# Altium footprint library bzq2142.PcbLib: 22 footprints (part 2 of 2)
Each footprint in its own frame and in the unit in brackets; x right, y up, seen from the top. Pads: shape width x height; smd on the part's side, far side on the other; paste and mask are expansions set on the pad; w line width, h text height; cw(c..) or ccw(c..) is an arc to the next point about the centre after c.
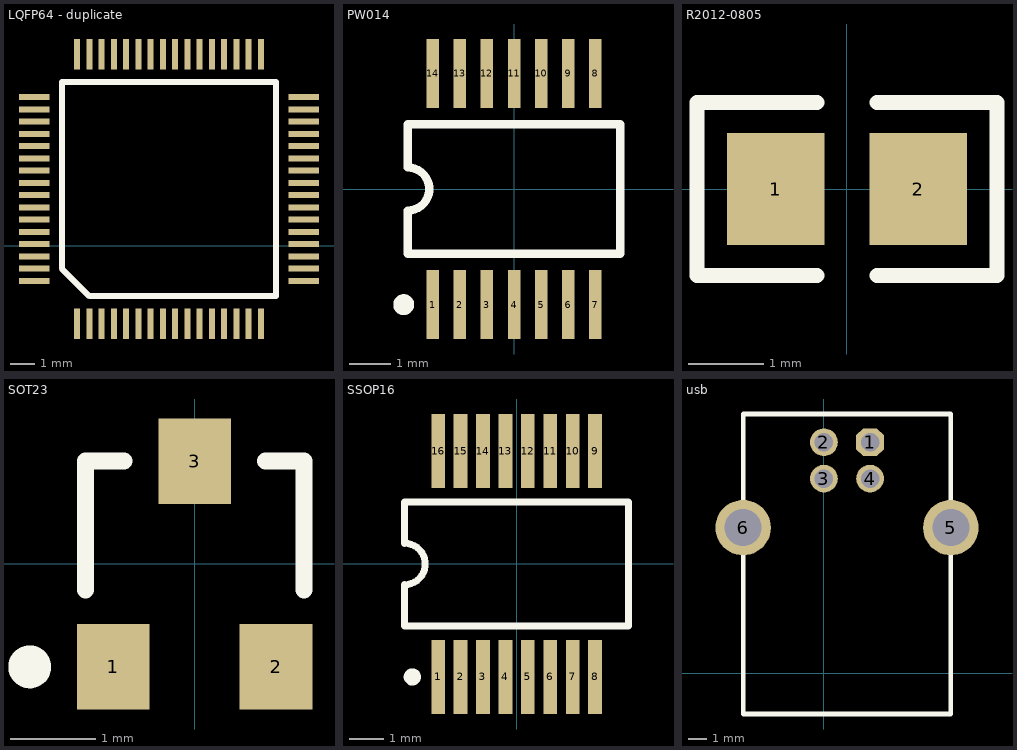
[diagram p1: the footprints below, top view; thin cyan lines are the x and y axes]

## LQFP64 - duplicate [mil]
pads (64):
  rect 10x50 smd: 1(848.22,-127.07) 2(868.22,-127.07) 3(888.22,-127.07) 4(908.22,-127.07) 5(928.22,-127.07) 6(948.22,-127.07) 7(968.22,-127.07) 8(988.22,-127.07) 9(1008.22,-127.07) 10(1028.22,-127.07) 11(1048.22,-127.07) 12(1068.22,-127.07) 13(1088.22,-127.07) 14(1108.22,-127.07) 15(1128.22,-127.07) 16(1148.22,-127.07) 33(1148.22,312.93) 34(1128.22,312.93) 35(1108.22,312.93) 36(1088.22,312.93) 37(1068.22,312.93) 38(1048.22,312.93) 39(1028.22,312.93) 40(1008.22,312.93) 41(988.22,312.93) 42(968.22,312.93) 43(948.22,312.93) 44(928.22,312.93) 45(908.22,312.93) 46(888.22,312.93) 47(868.22,312.93) 48(848.22,312.93)
  rect 50x10 smd: 17(1218.22,-57.07) 18(1218.22,-37.07) 19(1218.22,-17.07) 20(1218.22,2.93) 21(1218.22,22.93) 22(1218.22,42.93) 23(1218.22,62.93) 24(1218.22,82.93) 25(1218.22,102.93) 26(1218.22,122.93) 27(1218.22,142.93) 28(1218.22,162.93) 29(1218.22,182.93) 30(1218.22,202.93) 31(1218.22,222.93) 32(1218.22,242.93) 49(778.22,242.93) 50(778.22,222.93) 51(778.22,202.93) 52(778.22,182.93) 53(778.22,162.93) 54(778.22,142.93) 55(778.22,122.93) 56(778.22,102.93) 57(778.22,82.93) 58(778.22,62.93) 59(778.22,42.93) 60(778.22,22.93) 61(778.22,2.93) 62(778.22,-17.07) 63(778.22,-37.07) 64(778.22,-57.07)
Top Overlay:
  lines w10: 823.22,-37.07 868.22,-82.07 1173.22,-82.07 1173.22,267.93 823.22,267.93 823.22,-37.07

## PW014 [mm] "Shrink Small Outline; 14 Leads; Body Width 4.4 mm; Pitch 0.65 mm"
height 1.2
pads (14):
  rect 0.3x1.65 smd: 1(-1.95,-2.775) 2(-1.3,-2.775) 3(-0.65,-2.775) 4(0,-2.775) 5(0.65,-2.775) 6(1.3,-2.775) 7(1.95,-2.775) 8(1.95,2.775) 9(1.3,2.775) 10(0.65,2.775) 11(0,2.775) 12(-0.65,2.775) 13(-1.3,2.775) 14(-1.95,2.775)
Top Overlay:
  circle w0.25: c-2.65,-2.775 r0.125
  lines w0.2: -2.55,-1.55 2.55,-1.55 2.55,1.55 -2.55,1.55 -2.55,0.517 cw(c-2.55,0) -2.55,-0.517 -2.55,-1.55

## R2012-0805 [mm] "Thermistor; 2 Leads"
pads (2):
  rect 1.3x1.5 smd: 1(-0.95,0) 2(0.95,0)
Top Overlay:
  lines w0.2: -0.4,-1.15 -2,-1.15 -2,1.15 -0.4,1.15 ; 0.4,-1.15 2,-1.15 2,1.15 0.4,1.15

## SOT23 [mm] "SOT-23; 3 Leads; Body 3.0 x 2.5 mm, inc. leads (LxW max)"
height 1.1
pads (3):
  rect 0.85x1 smd: 1(-0.95,-1.2) 2(0.95,-1.2) 3(0,1.2)
Top Overlay:
  circle w0.25: c-1.925,-1.2 r0.125
  lines w0.2: -1.275,-0.3 -1.275,1.2 -0.825,1.2 ; 0.825,1.2 1.275,1.2 1.275,-0.3

## SSOP16 [mm] "SSOP; 16 Leads; Body Width 5.3 mm; Pitch 0.65 mm"
height 1.99
pads (16):
  rect 0.4x2.15 smd: 1(-2.275,-3.275) 2(-1.625,-3.275) 3(-0.975,-3.275) 4(-0.325,-3.275) 5(0.325,-3.275) 6(0.975,-3.275) 7(1.625,-3.275) 8(2.275,-3.275) 9(2.275,3.275) 10(1.625,3.275) 11(0.975,3.275) 12(0.325,3.275) 13(-0.325,3.275) 14(-0.975,3.275) 15(-1.625,3.275) 16(-2.275,3.275)
Top Overlay:
  circle w0.25: c-3.025,-3.275 r0.125
  lines w0.2: -3.25,-1.8 3.25,-1.8 3.25,1.8 -3.25,1.8 -3.25,0.6 cw(c-3.25,0) -3.25,-0.6 -3.25,-1.8

## usb [mil]
height 250
pads (6):
  oct 60x60 hole 40: 1(99.98,500.85)
  round 60 hole 40: 2(-0.02,500.85) 3(-0.02,422.11) 4(99.98,422.11)
  round 120 hole 80: 5(274.98,315.81) 6(-175.02,315.81)
Top Overlay:
  lines w10: -175.02,-87.89 274.98,-87.89 274.98,562.11 -175.02,562.11 -175.02,-87.89